# Altium footprint library CAP-Electrolitic-Hor-p7.5mm-D16mm-L27mm.PcbLib: 1 footprints
Each footprint in its own frame and in the unit in brackets; x right, y up, seen from the top. Pads: shape width x height; smd on the part's side, far side on the other; paste and mask are expansions set on the pad; w line width, h text height; cw(c..) or ccw(c..) is an arc to the next point about the centre after c.
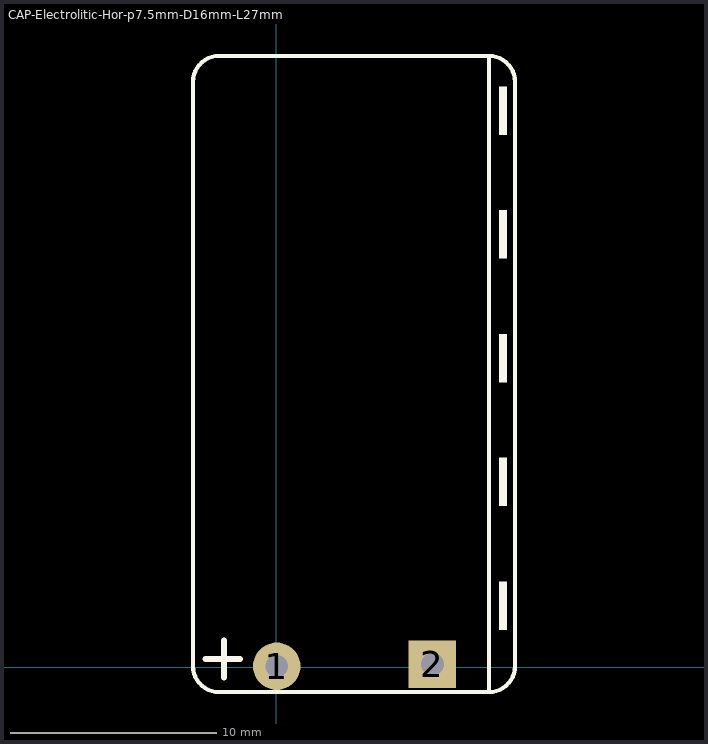
[diagram p0: the footprint, top view; thin cyan lines are the x and y axes]

## CAP-Electrolitic-Hor-p7.5mm-D16mm-L27mm [mm]
pads (2):
  round 2.3 hole 1.1: 1(0.029,0.06)
  rect 2.3x2.3 hole 1.1: 2(7.578,0.158)
Top Overlay:
  rectangle: 10.8,19.825 11.2,22.175
  rectangle: 10.8,13.825 11.2,16.175
  rectangle: 10.8,7.825 11.2,10.175
  rectangle: 10.8,1.825 11.2,4.175
  rectangle: 10.8,25.825 11.2,28.175
  lines w0.2: 10.316,-1.198 ccw(c10.316,0.072) 11.586,0.072 11.586,28.393 ccw(c10.316,28.393) 10.316,29.663 ; 10.316,-1.198 10.316,29.663 ; 10.316,-1.198 -2.765,-1.198 cw(c-2.765,0.072) -4.035,0.072 -4.035,28.393 cw(c-2.765,28.393) -2.765,29.663 10.316,29.663
  lines w0.3: -3.415,0.415 -1.764,0.415 ; -2.536,1.304 -2.526,-0.474
3D body "cap_el_horizontal_d16_h25_pitch7.5_w0.8.stp": height 17.1, standoff -2, extent -4.25,-0.4 11.76,27.41